# EAGLE library part MAX1501ETE (library max1501)
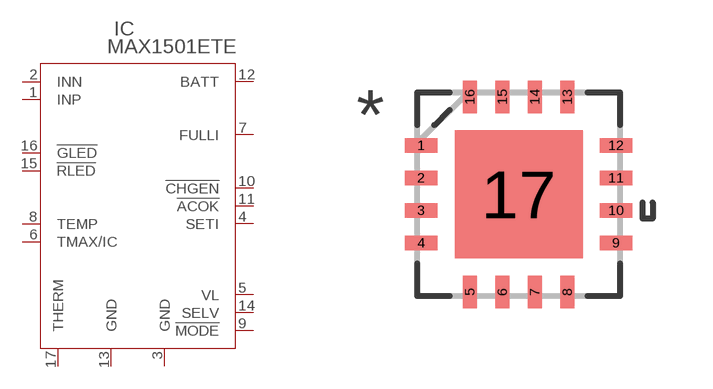
[diagram p0: symbol with the pads of 21-0140L_T1655-3; footprint 21-0140L_T1655-3]

Designator prefix IC

## MAX1501ETE (MANUFACTURER_NAME: Maxim; MANUFACTURER_PART_NUMBER: MAX1501ETE; VENDOR: Maxim)  [21-0140L_T1655-3]
1  INP  in
2  INN  in
3  GND  pwr
4  SETI
5  VL  pwr
6  TMAX/IC
7  FULLI
8  TEMP
9  !MODE
10  !CHGEN
11  !ACOK
12  BATT
13  GND  pwr
14  SELV
15  !RLED
16  !GLED
17  THERM  pas

## Footprint 21-0140L_T1655-3 (pad centres in mm)
smd 0.813 x 0.356: 1 -2.438,1.219; 2 -2.438,0.406; 3 -2.438,-0.406; 4 -2.438,-1.219; 9 2.438,-1.219; 10 2.438,-0.406; 11 2.438,0.406; 12 2.438,1.219
smd 0.356 x 0.813: 5 -1.219,-2.438; 6 -0.406,-2.438; 7 0.406,-2.438; 8 1.219,-2.438; 13 1.219,2.438; 14 0.406,2.438; 15 -0.406,2.438; 16 -1.219,2.438
smd 3.2 x 3.2: 17 0,0